# Altium footprint library S-85S1A.PcbLib: 1 footprints
Each footprint in its own frame and in the unit in brackets; x right, y up, seen from the top. Pads: shape width x height; smd on the part's side, far side on the other; paste and mask are expansions set on the pad; w line width, h text height; cw(c..) or ccw(c..) is an arc to the next point about the centre after c.
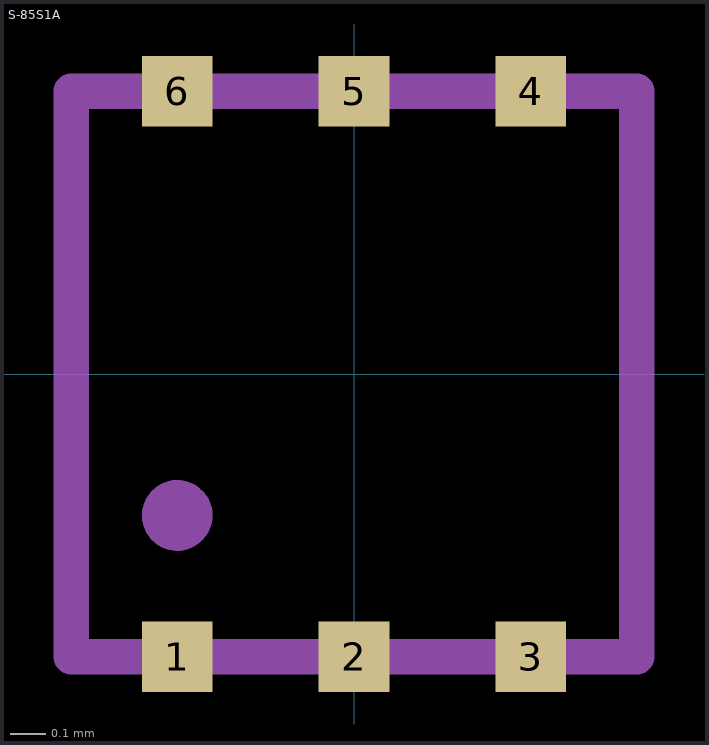
[diagram p0: the footprint, top view; thin cyan lines are the x and y axes]

## S-85S1A [mm]
pads (6):
  rect 0.2x0.2 smd: 1(-0.5,-0.8) 2(0,-0.8) 3(0.5,-0.8) 4(0.5,0.8) 5(0,0.8) 6(-0.5,0.8)
Mechanical 1:
  circle w0.1: c-0.5,-0.4 r0.05
  lines w0.1: -0.8,-0.8 0.8,-0.8 0.8,0.8 -0.8,0.8 -0.8,-0.8